# Altium schematic symbol library CD4044BNSR.SchLib: 1 symbol
Pins are listed as number, name and electrical type; pins without a type are passive.

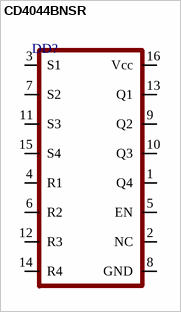
[diagram p0: symbol CD4044BNSR]

## CD4044BNSR
designator DD?
pins: 1 Q4, 2 NC, 3 S1, 4 R1, 5 EN, 6 R2, 7 S2, 8 GND, 9 Q2, 10 Q3, 11 S3, 12 R3, 13 Q1, 14 R4, 15 S4, 16 Vcc